# Altium footprint library PCIE.PcbLib: 1 footprints
Each footprint in its own frame and in the unit in brackets; x right, y up, seen from the top. Pads: shape width x height; smd on the part's side, far side on the other; paste and mask are expansions set on the pad; w line width, h text height; cw(c..) or ccw(c..) is an arc to the next point about the centre after c.
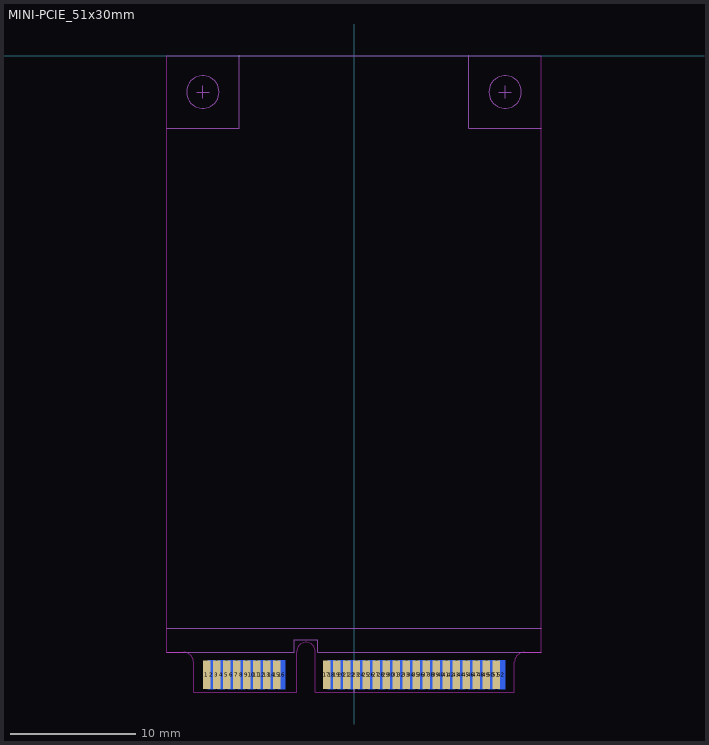
[diagram p0: the footprint, top view; thin cyan lines are the x and y axes]

## MINI-PCIE_51x30mm [mm] "Mini-PCIE_全高"
pads (52):
  rect 0.6x2.3 smd paste-100: 1(-11.8,-49.55) 3(-11,-49.55) 5(-10.2,-49.55) 7(-9.4,-49.55) 9(-8.6,-49.55) 11(-7.8,-49.55) 13(-7,-49.55) 15(-6.2,-49.55) 17(-2.2,-49.55) 19(-1.4,-49.55) 21(-0.6,-49.55) 23(0.2,-49.55) 25(1,-49.55) 27(1.8,-49.55) 29(2.6,-49.55) 31(3.4,-49.55) 33(4.2,-49.55) 35(5,-49.55) 37(5.8,-49.55) 39(6.6,-49.55) 41(7.4,-49.55) 43(8.2,-49.55) 45(9,-49.55) 47(9.8,-49.55) 49(10.6,-49.55) 51(11.4,-49.55)
  rect 0.6x2.3 smd far side paste-100: 2(-11.4,-49.55) 4(-10.6,-49.55) 6(-9.8,-49.55) 8(-9,-49.55) 10(-8.2,-49.55) 12(-7.4,-49.55) 14(-6.6,-49.55) 16(-5.8,-49.55) 18(-1.8,-49.55) 20(-1,-49.55) 22(-0.2,-49.55) 24(0.6,-49.55) 26(1.4,-49.55) 28(2.2,-49.55) 30(3,-49.55) 32(3.8,-49.55) 34(4.6,-49.55) 36(5.4,-49.55) 38(6.2,-49.55) 40(7,-49.55) 42(7.8,-49.55) 44(8.6,-49.55) 46(9.4,-49.55) 48(10.2,-49.55) 50(11,-49.55) 52(11.8,-49.55)
Keep-Out Layer:
  lines w0.1: -15,-47.75 -15,0 15,0 15,-47.75 13.65,-47.75 ccw(c13.65,-48.55) 12.85,-48.55 12.85,-50.95 -3.1,-50.95 -3.1,-47.7 ccw(c-3.85,-47.7) -4.6,-47.7 -4.6,-50.95 -12.85,-50.95 -12.85,-48.55 ccw(c-13.65,-48.55) -13.65,-47.75 -15,-47.75
Mechanical 15:
  circle w0.1: c-12.1,-2.9 r1.3
  circle w0.1: c12.1,-2.9 r1.3
  lines w0.1: -15,-47.75 -4.8,-47.75 -4.8,-46.75 -2.9,-46.75 -2.9,-47.75 15,-47.75 ; -15,-45.85 15,-45.85 ; -15,-5.8 -9.2,-5.8 -9.2,0 ; -12.6,-2.9 -11.6,-2.9 ; -12.1,-3.4 -12.1,-2.4 ; 0,-50.95 0,-50.7 0,-48.4 ; 0.4,-50.7 0.4,-48.4 ; 9.2,0 9.2,-5.8 15,-5.8 ; 11.6,-2.9 12.6,-2.9 ; 12.1,-3.4 12.1,-2.4